# EAGLE library part DS3231MZ+ (library NR_IC)
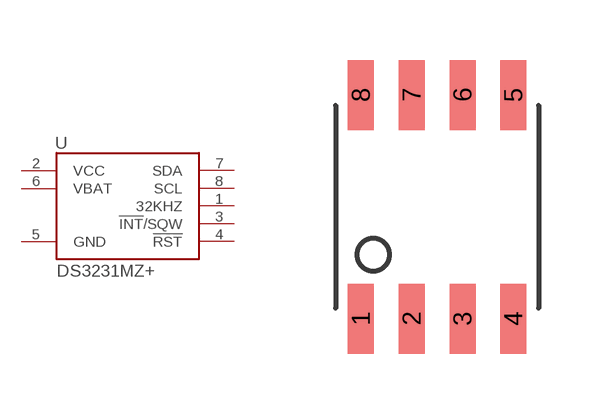
[diagram p4: symbol with the pads of SOIC-8; footprint SOIC-8]

Designator prefix U

## DS3231MZ+  [SOIC-8]
1  32KHZ
2  VCC  pwr
3  !INT!/SQW
4  !RST!
5  GND  pwr
6  VBAT  pwr
7  SDA
8  SCL

## Footprint SOIC-8 (pad centres in mm)
smd 0.65 x 1.75: 1 -1.905,-2.8; 2 -0.635,-2.8; 3 0.635,-2.8; 4 1.905,-2.8; 5 1.905,2.8; 6 0.635,2.8; 7 -0.635,2.8; 8 -1.905,2.8